# EAGLE library part ESP32 (library ESP32-WROOM)
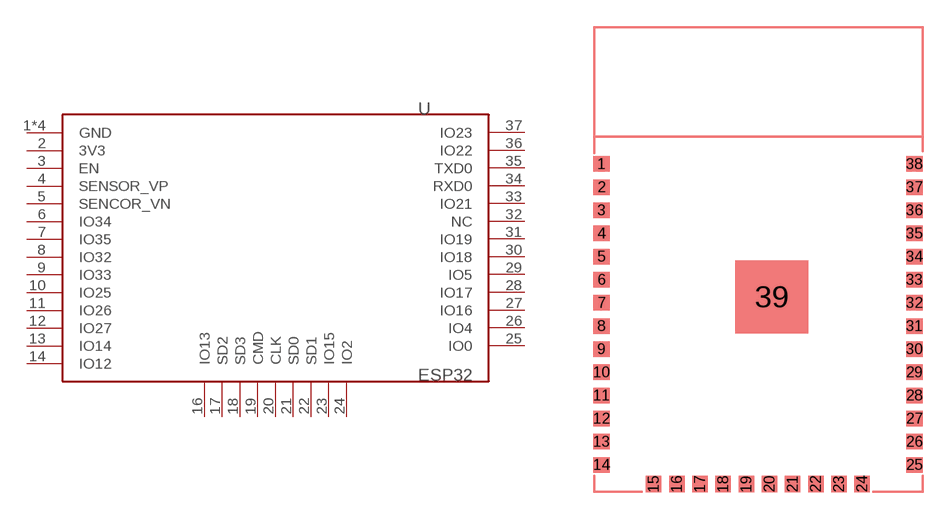
[diagram p0: symbol with the pads of ESP32; footprint ESP32]

Designator prefix -

## ESP32  [ESP32]
1  GND
2  3V3
3  EN
4  SENSOR_VP
5  SENCOR_VN
6  IO34
7  IO35
8  IO32
9  IO33
10  IO25
11  IO26
12  IO27
13  IO14
14  IO12
15  GND
16  IO13
17  SD2
18  SD3
19  CMD
20  CLK
21  SD0
22  SD1
23  IO15
24  IO2
25  IO0
26  IO4
27  IO16
28  IO17
29  IO5
30  IO18
31  IO19
32  NC
33  IO21
34  RXD0
35  TXD0
36  IO22
37  IO23
38  GND
39  GND

## Footprint ESP32 (pad centres in mm)
smd 0.9 x 0.85: 1 0,0; 2 0,-1.27; 3 0,-2.54; 4 0,-3.81; 5 0,-5.08; 6 0,-6.35; 7 0,-7.62; 8 0,-8.89; 9 0,-10.16; 10 0,-11.43; 11 0,-12.7; 12 0,-13.97; 13 0,-15.24; 14 0,-16.51; 25 17.15,-16.51; 26 17.15,-15.24; 27 17.15,-13.97; 28 17.15,-12.7; 29 17.15,-11.43; 30 17.15,-10.16; 31 17.15,-8.89; 32 17.15,-7.62; 33 17.15,-6.35; 34 17.15,-5.08; 35 17.15,-3.81; 36 17.15,-2.54; 37 17.15,-1.27; 38 17.15,0
smd 0.85 x 0.9: 15 2.855,-17.56; 16 4.125,-17.56; 17 5.395,-17.56; 18 6.665,-17.56; 19 7.935,-17.56; 20 9.205,-17.56; 21 10.475,-17.56; 22 11.745,-17.56; 23 13.015,-17.56; 24 14.285,-17.56
smd 4 x 4: 39 9.325,-7.285